# EAGLE library part APA102C_5050 (library Dotstar)
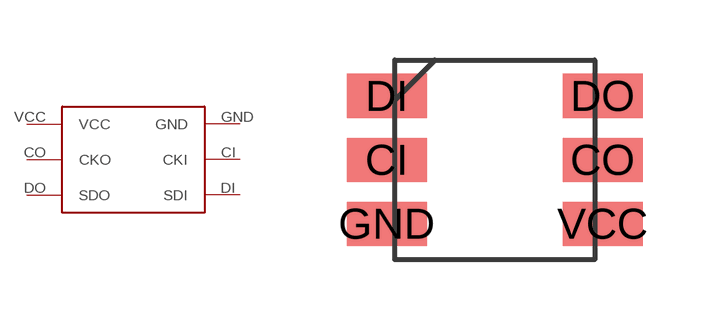
[diagram p1: symbol with the pads of APA102C_5050; footprint APA102C_5050]

Designator prefix -

## APA102C_5050  [APA102C_5050]
CI  CKI
CO  CKO
DI  SDI
DO  SDO
GND  GND
VCC  VCC

## Footprint APA102C_5050 (pad centres in mm)
smd 2 x 1.1: CI -2.7,0; CO 2.7,0; DI -2.7,1.6; DO 2.7,1.6; GND -2.7,-1.6; VCC 2.7,-1.6